# Altium footprint library 超实用封装库(专用C).PcbLib: 106 footprints (part 5 of 7)
Each footprint in its own frame and in the unit in brackets; x right, y up, seen from the top. Pads: shape width x height; smd on the part's side, far side on the other; paste and mask are expansions set on the pad; w line width, h text height; cw(c..) or ccw(c..) is an arc to the next point about the centre after c.
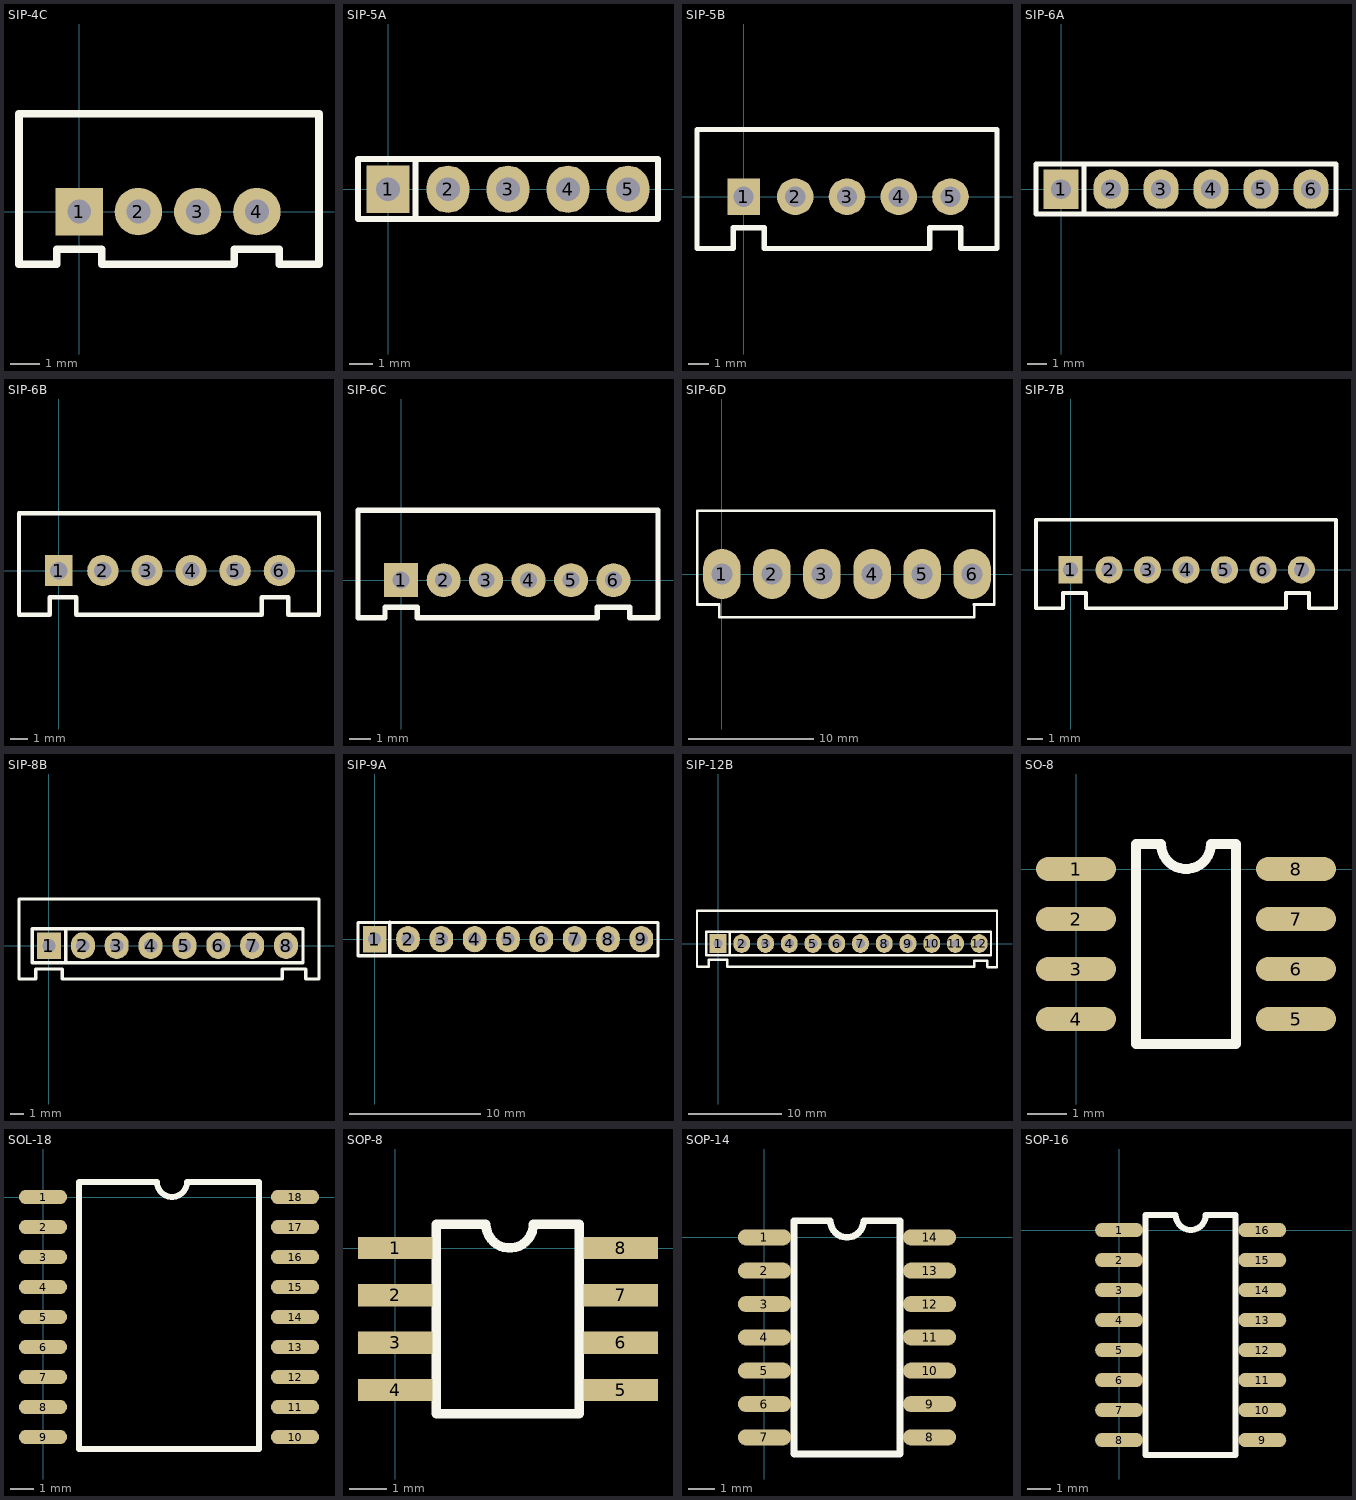
[diagram p4: the footprints below, top view; thin cyan lines are the x and y axes]

## SIP-4C [mm]
pads (4):
  rect 1.6x1.6 hole 0.8: 1(0,0)
  round 1.6 hole 0.8: 2(2,0) 3(4,0) 4(6,0)
TopOverlay:
  lines w0.254: -2.032,-1.778 -2.032,3.302 8.096,3.302 8.096,-1.778 6.762,-1.778 6.762,-1.27 5.238,-1.27 5.238,-1.778 0.762,-1.778 0.762,-1.27 -0.762,-1.27 -0.762,-1.778 -2.032,-1.778

## SIP-5A [mm]
pads (5):
  rect 1.8x2 hole 1: 1(0,0)
  oval 1.8x2 hole 1: 2(2.54,0) 3(5.08,0) 4(7.62,0) 5(10.16,0)
TopOverlay:
  lines w0.254: 1.16,-1.25 1.16,1.29 ; -1.27,-1.27 -1.27,1.27 11.43,1.27 11.43,-1.27 -1.27,-1.27

## SIP-5B [mm]
pads (5):
  rect 1.6x1.8 hole 1: 1(0,0)
  round 1.8 hole 1: 2(2.54,0) 3(5.08,0) 4(7.62,0) 5(10.16,0)
TopOverlay:
  lines w0.254: -2.286,-2.54 -2.286,3.302 12.446,3.302 12.446,-2.54 10.668,-2.54 10.668,-1.524 9.144,-1.524 9.144,-2.54 1.016,-2.54 1.016,-1.524 -0.508,-1.524 -0.508,-2.54 -2.286,-2.54

## SIP-6A [mm]
pads (6):
  rect 1.8x2 hole 1: 1(0,0)
  oval 1.8x2 hole 1: 2(2.54,0) 3(5.08,0) 4(7.62,0) 5(10.16,0) 6(12.7,0)
TopOverlay:
  lines w0.254: 1.16,-1.25 1.16,1.29 ; -1.27,-1.27 13.97,-1.27 13.97,1.27 -1.27,1.27 -1.27,-1.27

## SIP-6B [mm]
pads (6):
  rect 1.6x1.8 hole 1: 1(0,0)
  round 1.8 hole 1: 2(2.54,0) 3(5.08,0) 4(7.62,0) 5(10.16,0) 6(12.7,0)
TopOverlay:
  lines w0.254: -2.286,-2.54 -2.286,3.302 14.986,3.302 14.986,-2.54 13.208,-2.54 13.208,-1.524 11.684,-1.524 11.684,-2.54 1.016,-2.54 1.016,-1.524 -0.508,-1.524 -0.508,-2.54 -2.286,-2.54

## SIP-6C [mm]
pads (6):
  rect 1.6x1.6 hole 0.8: 1(0,0)
  round 1.6 hole 0.8: 2(2,0) 3(4,0) 4(6,0) 5(8,0) 6(10,0)
TopOverlay:
  lines w0.254: 9.22,-1.778 0.762,-1.778 0.762,-1.27 -0.762,-1.27 -0.762,-1.778 -2.032,-1.778 -2.032,3.302 12.09,3.302 ; 9.238,-1.778 9.238,-1.27 10.762,-1.27 10.762,-1.778 12.096,-1.778 12.096,3.302

## SIP-6D [mil]
pads (6):
  oval 118x157 hole 67: 1(0,0) 2(157.48,0) 3(314.96,0) 4(472.44,0) 5(629.92,0) 6(787.4,0)
TopOverlay:
  lines w8: -78,199 -78,-96 -9,-96 -9,-136 794,-136 794,-96 ; -76,199 857,199 857,-96 793,-96

## SIP-7B [mm]
pads (7):
  rect 1.6x1.8 hole 1: 1(0,0)
  round 1.8 hole 1: 2(2.54,0) 3(5.08,0) 4(7.62,0) 5(10.16,0) 6(12.7,0) 7(15.24,0)
TopOverlay:
  lines w0.254: -2.286,-2.54 -2.286,3.302 17.526,3.302 17.526,-2.54 15.748,-2.54 15.748,-1.524 14.224,-1.524 14.224,-2.54 1.016,-2.54 1.016,-1.524 -0.508,-1.524 -0.508,-2.54 -2.286,-2.54

## SIP-8B [mm]
pads (8):
  rect 1.8x2 hole 1: 1(0,0)
  oval 1.8x2 hole 1: 2(2.54,0) 3(5.08,0) 4(7.62,0) 5(10.16,0) 6(12.7,0) 7(15.24,0) 8(17.78,0)
TopOverlay:
  lines w0.254: 1.27,-1.27 1.27,1.27 ; -2.25,-2.5 -1,-2.5 -1,-1.75 1,-1.75 1,-2.5 17.5,-2.5 17.5,-1.75 19,-1.75 19.25,-1.75 19.25,-2.5 20.25,-2.5 20.25,3.5 -2.25,3.5 -2.25,-2.5 ; -1.27,-1.27 -1.27,1.27 19.05,1.27 19.05,-1.27 -1.27,-1.27

## SIP-9A [mm]
pads (9):
  rect 1.8x2 hole 1: 1(0,0)
  oval 1.8x2 hole 1: 2(2.54,0) 3(5.08,0) 4(7.62,0) 5(10.16,0) 6(12.7,0) 7(15.24,0) 8(17.78,0) 9(20.32,0)
TopOverlay:
  lines w0.254: 1.16,-1.25 1.16,1.29 ; -1.27,-1.27 21.59,-1.27 21.59,1.27 -1.27,1.27 -1.27,-1.27

## SIP-12B [mm]
pads (12):
  rect 1.8x2 hole 1: 1(0,0)
  oval 1.8x2 hole 1: 2(2.54,0) 3(5.08,0) 4(7.62,0) 5(10.16,0) 6(12.7,0) 7(15.24,0) 8(17.78,0) 9(20.32,0) 10(22.86,0)
  oval 1.8x2 hole 0.8: 11(25.4,0) 12(27.94,0)
TopOverlay:
  lines w0.254: 1.27,-1.27 1.27,1.27 ; 10.45,-2.5 11.7,-2.5 ; 18.263,-1.27 29.21,-1.27 29.21,1.245 ; 18.5,-1.27 24.028,-1.27 ; 19.05,-1.27 -1.27,-1.27 -1.27,1.27 ; 19.05,1.27 -1.27,1.27 ; 20.065,3.5 25.065,3.5 ; 20.25,3.5 -2.25,3.5 -2.25,-2.5 -1,-2.5 -1,-1.75 1,-1.75 1,-2.5 17.5,-2.5 21.986,-2.5 27.407,-2.5 27.407,-1.854 28.804,-1.854 28.804,-2.475 ; 22.784,3.5 29.85,3.5 29.85,-2.342 29.85,-2.535 28.864,-2.535 ; 23.47,1.27 29.185,1.27 ; 24.028,1.27 -1.27,1.27

## SO-8 [mil]
pads (8):
  oval 80x24 smd: 1(0,0) 2(0,-50) 3(0,-100) 4(0,-150) 5(220,-150) 6(220,-100) 7(220,-50) 8(220,0)
TopOverlay:
  lines w10: 60,-175 160,-175 160,25 135,25 cw(c110,25) 85,25 60,25 60,-175

## SOL-18 [mil]
pads (18):
  oval 80x24 smd: 1(0,0) 2(0,-50) 3(0,-100) 4(0,-150) 5(0,-200) 6(0,-250) 7(0,-300) 8(0,-350) 9(0,-400) 10(420,-400) 11(420,-350) 12(420,-300) 13(420,-250) 14(420,-200) 15(420,-150) 16(420,-100) 17(420,-50) 18(420,0)
TopOverlay:
  lines w10: 60,-420 60,25 190,25 ccw(c215,25) 240,25 360,25 360,-420 60,-420

## SOP-8 [mm]
pads (8):
  rect 2x0.6 smd: 1(0,0) 2(0,-1.27) 3(0,-2.54) 4(0,-3.81) 5(6.048,-3.81) 6(6.048,-2.54) 7(6.048,-1.27) 8(6.048,0)
TopOverlay:
  lines w0.254: 1.098,-4.445 4.938,-4.445 4.938,0.635 3.703,0.635 cw(c3.068,0.635) 2.433,0.635 1.098,0.635 1.098,-4.445

## SOP-14 [mil]
pads (14):
  oval 80x24 smd: 1(0,0) 2(0,-50) 3(0,-100) 4(0,-150) 5(0,-200) 6(0,-250) 7(0,-300) 8(247.56,-300) 9(247.56,-250) 10(247.56,-200) 11(247.56,-150) 12(247.56,-100) 13(247.56,-50) 14(247.56,0)
TopOverlay:
  lines w10: 44.25,-325 203.31,-325 203.31,25 148.78,25 cw(c123.78,25) 98.78,25 44.25,25 44.25,-325

## SOP-16 [mil]
pads (16):
  oval 80x24 smd: 1(0,0) 2(0,-50) 3(0,-100) 4(0,-150) 5(0,-200) 6(0,-250) 7(0,-300) 8(0,-350) 9(238.5,-350) 10(238.5,-300) 11(238.5,-250) 12(238.5,-200) 13(238.5,-150) 14(238.5,-100) 15(238.5,-50) 16(238.5,0)
TopOverlay:
  lines w10: 44.25,-375 44.25,25 94.25,25 ccw(c119.25,25) 144.25,25 194.25,25 194.25,-375 44.25,-375